# Altium footprint library PCA9537DPZ.PcbLib: 3 footprints
Each footprint in its own frame and in the unit in brackets; x right, y up, seen from the top. Pads: shape width x height; smd on the part's side, far side on the other; paste and mask are expansions set on the pad; w line width, h text height; cw(c..) or ccw(c..) is an arc to the next point about the centre after c.
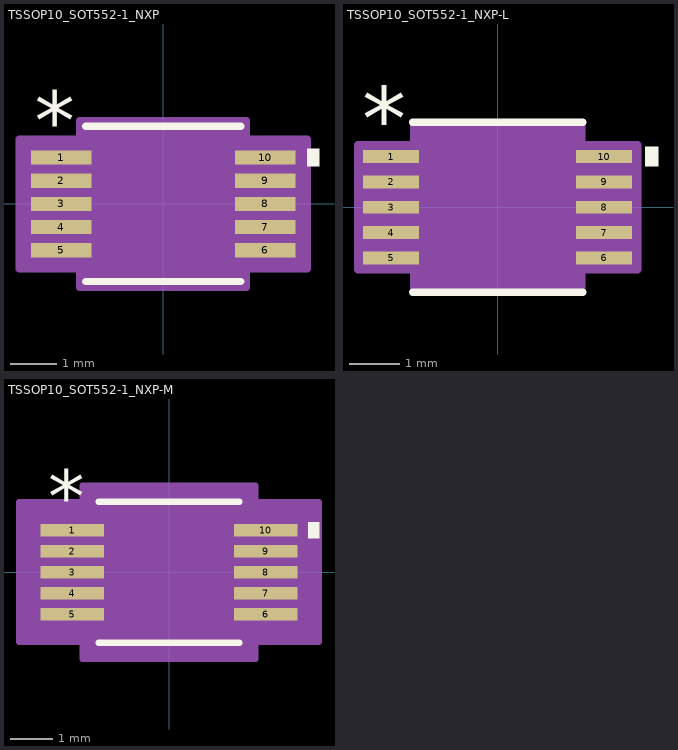
[diagram p0: the footprints below, top view; thin cyan lines are the x and y axes]

## TSSOP10_SOT552-1_NXP [mil]
pads (10):
  rect 51.5x12 smd paste+0 mask+0: 1(-86.75,39.37) 2(-86.75,19.68) 3(-86.75,0) 4(-86.75,-19.68) 5(-86.75,-39.37) 6(86.75,-39.37) 7(86.75,-19.68) 8(86.75,0) 9(86.75,19.68) 10(86.75,39.37)
Top Overlay:
  region: 122.5,46.87 132.5,46.87 132.5,31.87 122.5,31.87
  lines w6: -66,-66 66,-66 ; -66,66 66,66
  text "*" at -109.25,46.37 h50
Mechanical 13:
  lines w0: -12,61 ccw(c0,61) 12,61
  lines w1: -98.5,-45.37 -98.5,-33.37 -61,-33.37 -61,-45.37 -98.5,-45.37 ; -98.5,-25.68 -98.5,-13.69 -61,-13.69 -61,-25.68 -98.5,-25.68 ; -98.5,-6 -98.5,6 -61,6 -61,-6 -98.5,-6 ; -98.5,13.69 -98.5,25.68 -61,25.68 -61,13.69 -98.5,13.69 ; -98.5,33.37 -98.5,45.37 -61,45.37 -61,33.37 -98.5,33.37 ; -61,-61 61,-61 61,61 -61,61 -61,-61 ; 61,-45.37 61,-33.37 98.5,-33.37 98.5,-45.37 61,-45.37 ; 61,-25.68 61,-13.69 98.5,-13.69 98.5,-25.68 61,-25.68 ; 61,-6 61,6 98.5,6 98.5,-6 61,-6 ; 61,13.69 61,25.68 98.5,25.68 98.5,13.69 61,13.69 ; 61,33.37 61,45.37 98.5,45.37 98.5,33.37 61,33.37
  text "*" at -58.5,8 h50
Mechanical 15:
  region: -71,-55.37 -122.5,-55.37 -122.5,55.37 -71,55.37 -71,71 71,71 71,55.37 122.5,55.37 122.5,-55.37 71,-55.37 71,-71 -71,-71
  lines w6: -122.5,-55.37 -122.5,55.37 -71,55.37 -71,71 71,71 71,55.37 122.5,55.37 122.5,-55.37 71,-55.37 71,-71 -71,-71 -71,-55.37 -122.5,-55.37
3D body "TSSOP10_SOT552-1_NXP.step": height 43.11, standoff 0, extent -98.5,-60.98 98.5,60.98

## TSSOP10_SOT552-1_NXP-L [mil]
pads (10):
  rect 43.5x10 smd paste+0 mask+0: 1(-82.75,39.37) 2(-82.75,19.68) 3(-82.75,0) 4(-82.75,-19.68) 5(-82.75,-39.37) 6(82.75,-39.37) 7(82.75,-19.68) 8(82.75,0) 9(82.75,19.68) 10(82.75,39.37)
Top Overlay:
  region: 114.5,46.87 124.5,46.87 124.5,31.87 114.5,31.87
  lines w6: -66,-66 66,-66 ; -66,66 66,66
  text "*" at -105.25,44.37 h50
Mechanical 13:
  lines w0: -12,61 ccw(c0,61) 12,61
  lines w1: -98.5,-45.37 -98.5,-33.37 -61,-33.37 -61,-45.37 -98.5,-45.37 ; -98.5,-25.68 -98.5,-13.69 -61,-13.69 -61,-25.68 -98.5,-25.68 ; -98.5,-6 -98.5,6 -61,6 -61,-6 -98.5,-6 ; -98.5,13.69 -98.5,25.68 -61,25.68 -61,13.69 -98.5,13.69 ; -98.5,33.37 -98.5,45.37 -61,45.37 -61,33.37 -98.5,33.37 ; -61,-61 61,-61 61,61 -61,61 -61,-61 ; 61,-45.37 61,-33.37 98.5,-33.37 98.5,-45.37 61,-45.37 ; 61,-25.68 61,-13.69 98.5,-13.69 98.5,-25.68 61,-25.68 ; 61,-6 61,6 98.5,6 98.5,-6 61,-6 ; 61,13.69 61,25.68 98.5,25.68 98.5,13.69 61,13.69 ; 61,33.37 61,45.37 98.5,45.37 98.5,33.37 61,33.37
  text "*" at -58.5,8 h50
Mechanical 15:
  region: -65,-48.37 -108.5,-48.37 -108.5,48.37 -65,48.37 -65,65 65,65 65,48.37 108.5,48.37 108.5,-48.37 65,-48.37 65,-65 -65,-65
  lines w6: -108.5,-48.37 -108.5,48.37 -65,48.37 -65,65 65,65 65,48.37 108.5,48.37 108.5,-48.37 65,-48.37 65,-65 -65,-65 -65,-48.37 -108.5,-48.37
3D body "TSSOP10_SOT552-1_NXP.step": height 43.11, standoff 0, extent -98.5,-60.98 98.5,60.98

## TSSOP10_SOT552-1_NXP-M [mil]
pads (10):
  rect 59.5x12 smd paste+0 mask+0: 1(-90.75,39.37) 2(-90.75,19.68) 3(-90.75,0) 4(-90.75,-19.68) 5(-90.75,-39.37) 6(90.75,-39.37) 7(90.75,-19.68) 8(90.75,0) 9(90.75,19.68) 10(90.75,39.37)
Top Overlay:
  region: 130.5,46.87 140.5,46.87 140.5,31.87 130.5,31.87
  lines w6: -66,-66 66,-66 ; -66,66 66,66
  text "*" at -113.25,46.37 h50
Mechanical 13:
  lines w0: -12,61 ccw(c0,61) 12,61
  lines w1: -98.5,-45.37 -98.5,-33.37 -61,-33.37 -61,-45.37 -98.5,-45.37 ; -98.5,-25.68 -98.5,-13.69 -61,-13.69 -61,-25.68 -98.5,-25.68 ; -98.5,-6 -98.5,6 -61,6 -61,-6 -98.5,-6 ; -98.5,13.69 -98.5,25.68 -61,25.68 -61,13.69 -98.5,13.69 ; -98.5,33.37 -98.5,45.37 -61,45.37 -61,33.37 -98.5,33.37 ; -61,-61 61,-61 61,61 -61,61 -61,-61 ; 61,-45.37 61,-33.37 98.5,-33.37 98.5,-45.37 61,-45.37 ; 61,-25.68 61,-13.69 98.5,-13.69 98.5,-25.68 61,-25.68 ; 61,-6 61,6 98.5,6 98.5,-6 61,-6 ; 61,13.69 61,25.68 98.5,25.68 98.5,13.69 61,13.69 ; 61,33.37 61,45.37 98.5,45.37 98.5,33.37 61,33.37
  text "*" at -58.5,8 h50
Mechanical 15:
  region: -81,-65.37 -140.5,-65.37 -140.5,65.37 -81,65.37 -81,81 81,81 81,65.37 140.5,65.37 140.5,-65.37 81,-65.37 81,-81 -81,-81
  lines w6: -140.5,-65.37 -140.5,65.37 -81,65.37 -81,81 81,81 81,65.37 140.5,65.37 140.5,-65.37 81,-65.37 81,-81 -81,-81 -81,-65.37 -140.5,-65.37
3D body "TSSOP10_SOT552-1_NXP.step": height 43.11, standoff 0, extent -98.5,-60.98 98.5,60.98